# Altium schematic symbol library Controller_Library.SchLib: 2 symbols
Pins are listed as number, name and electrical type; pins without a type are passive.

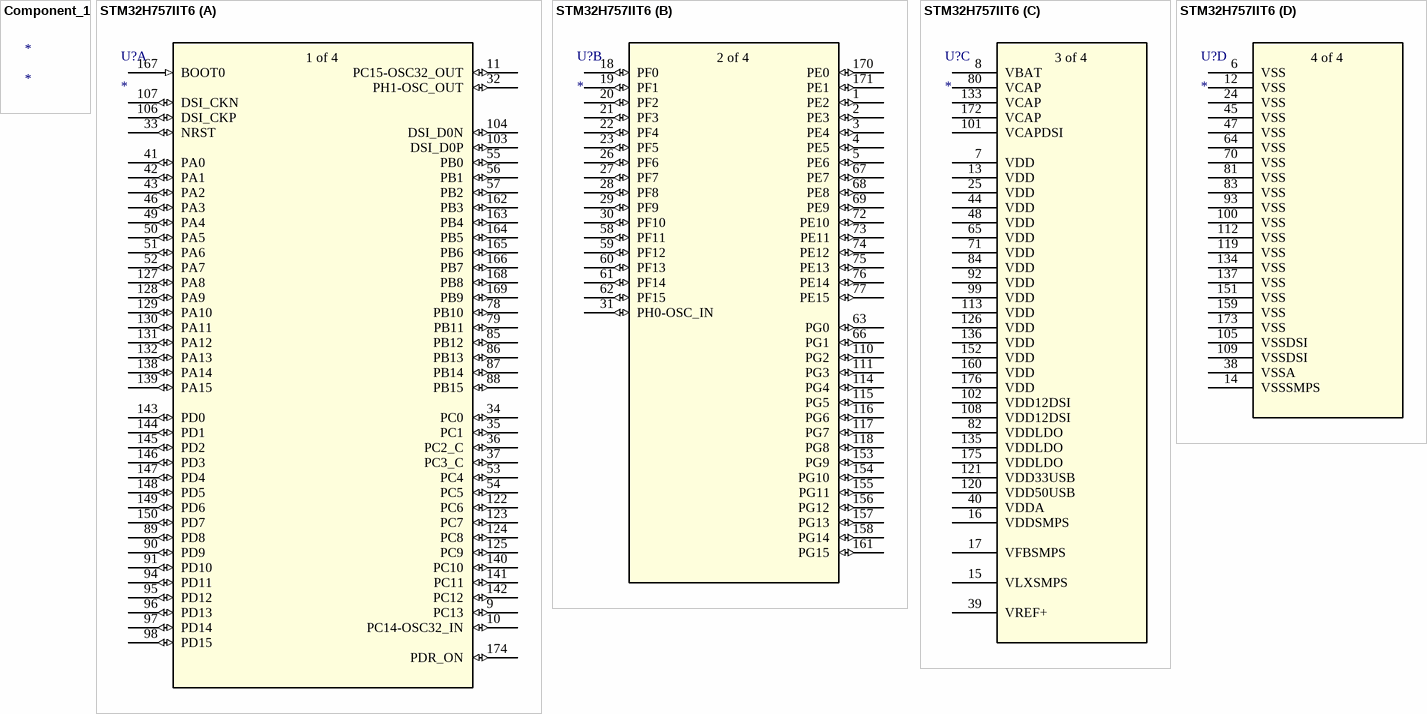
[diagram p0: symbols Component_1 to STM32H757IIT6]

## Component_1
designator *

## STM32H757IIT6
designator U?
No Description Available; Mfr_Name: STMicroelectronics; RefDes: RefDes; Type: Type
footprint LQFP-176
part A pins: 9 PC13 (io), 10 PC14-OSC32_IN (io), 11 PC15-OSC32_OUT (io), 32 PH1-OSC_OUT (io), 33 NRST (io), 34 PC0 (io), 35 PC1 (io), 36 PC2_C (io), 37 PC3_C (io), 41 PA0 (io), 42 PA1 (io), 43 PA2 (io), 46 PA3 (io), 49 PA4 (io), 50 PA5 (io), 51 PA6 (io), 52 PA7 (io), 53 PC4 (io), 54 PC5 (io), 55 PB0 (io), 56 PB1 (io), 57 PB2 (io), 78 PB10 (io), 79 PB11 (io), 85 PB12 (io), 86 PB13 (io), 87 PB14 (io), 88 PB15 (io), 89 PD8 (io), 90 PD9 (io), 91 PD10 (io), 94 PD11 (io), 95 PD12 (io), 96 PD13 (io), 97 PD14 (io), 98 PD15 (io), 103 DSI_D0P (io), 104 DSI_D0N (io), 106 DSI_CKP (io), 107 DSI_CKN (io), 122 PC6 (io), 123 PC7 (io), 124 PC8 (io), 125 PC9 (io), 127 PA8 (io), 128 PA9 (io), 129 PA10 (io), 130 PA11 (io), 131 PA12 (io), 132 PA13 (io), 138 PA14 (io), 139 PA15 (io), 140 PC10 (io), 141 PC11 (io), 142 PC12 (io), 143 PD0 (io), 144 PD1 (io), 145 PD2 (io), 146 PD3 (io), 147 PD4 (io), 148 PD5 (io), 149 PD6 (io), 150 PD7 (io), 162 PB3 (io), 163 PB4 (io), 164 PB5 (io), 165 PB6 (io), 166 PB7 (io), 167 BOOT0 (in), 168 PB8 (io), 169 PB9 (io), 174 PDR_ON (io)
part B pins: 1 PE2 (io), 2 PE3 (io), 3 PE4 (io), 4 PE5 (io), 5 PE6 (io), 18 PF0 (io), 19 PF1 (io), 20 PF2 (io), 21 PF3 (io), 22 PF4 (io), 23 PF5 (io), 26 PF6 (io), 27 PF7 (io), 28 PF8 (io), 29 PF9 (io), 30 PF10 (io), 31 PH0-OSC_IN (io), 58 PF11 (io), 59 PF12 (io), 60 PF13 (io), 61 PF14 (io), 62 PF15 (io), 63 PG0 (io), 66 PG1 (io), 67 PE7 (io), 68 PE8 (io), 69 PE9 (io), 72 PE10 (io), 73 PE11 (io), 74 PE12 (io), 75 PE13 (io), 76 PE14 (io), 77 PE15 (io), 110 PG2 (io), 111 PG3 (io), 114 PG4 (io), 115 PG5 (io), 116 PG6 (io), 117 PG7 (io), 118 PG8 (io), 153 PG9 (io), 154 PG10 (io), 155 PG11 (io), 156 PG12 (io), 157 PG13 (io), 158 PG14 (io), 161 PG15 (io), 170 PE0 (io), 171 PE1 (io)
part C pins: 7 VDD (power), 8 VBAT (power), 13 VDD (power), 15 VLXSMPS (power), 16 VDDSMPS (power), 17 VFBSMPS (power), 25 VDD (power), 39 VREF+ (power), 40 VDDA (power), 44 VDD (power), 48 VDD (power), 65 VDD (power), 71 VDD (power), 80 VCAP (power), 82 VDDLDO (power), 84 VDD (power), 92 VDD (power), 99 VDD (power), 101 VCAPDSI (power), 102 VDD12DSI (power), 108 VDD12DSI (power), 113 VDD (power), 120 VDD50USB (power), 121 VDD33USB (power), 126 VDD (power), 133 VCAP (power), 135 VDDLDO (power), 136 VDD (power), 152 VDD (power), 160 VDD (power), 172 VCAP (power), 175 VDDLDO (power), 176 VDD (power)
part D pins: 6 VSS (power), 12 VSS (power), 14 VSSSMPS (power), 24 VSS (power), 38 VSSA (power), 45 VSS (power), 47 VSS (power), 64 VSS (power), 70 VSS (power), 81 VSS (power), 83 VSS (power), 93 VSS (power), 100 VSS (power), 105 VSSDSI (power), 109 VSSDSI (power), 112 VSS (power), 119 VSS (power), 134 VSS (power), 137 VSS (power), 151 VSS (power), 159 VSS (power), 173 VSS (power)
part A text: 1 of 4
part B text: 2 of 4
part C text: 3 of 4
part D text: 4 of 4